# Altium footprint library SOT 343.PcbLib: 5 footprints
Each footprint in its own frame and in the unit in brackets; x right, y up, seen from the top. Pads: shape width x height; smd on the part's side, far side on the other; paste and mask are expansions set on the pad; w line width, h text height; cw(c..) or ccw(c..) is an arc to the next point about the centre after c.
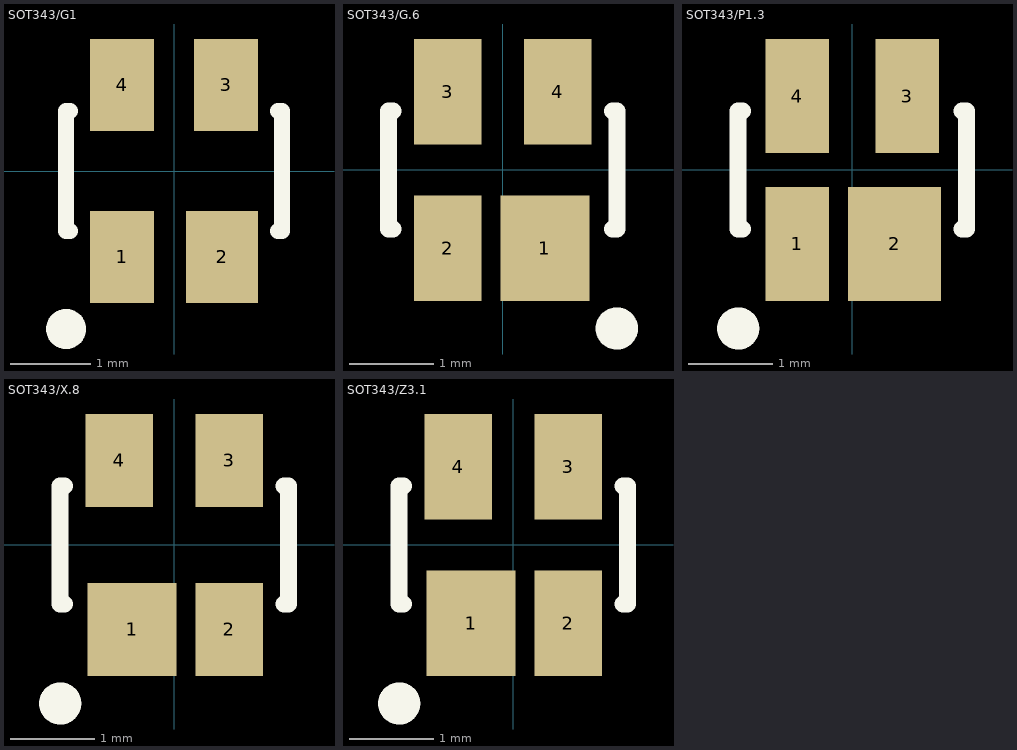
[diagram p0: the footprints below, top view; thin cyan lines are the x and y axes]

## SOT343/G1 [mm] "SOT-343; 4 Leads; Body 2.2 x 2.4 mm, inc. leads (LxW max)"
height 1.1
pads (4):
  rect 0.8x1.15 smd: 1(-0.65,-1.075) 3(0.65,1.075) 4(-0.65,1.075)
  rect 0.9x1.15 smd: 2(0.6,-1.075)
Top Overlay:
  circle w0.25: c-1.35,-1.975 r0.125
  lines w0.2: -1.3,-0.75 -1.35,-0.75 -1.35,0.75 -1.3,0.75 ; 1.3,-0.75 1.35,-0.75 1.35,0.75 1.3,0.75

## SOT343/G.6 [mm] "SOT-343; 4 Leads; Body 2.2 x 2.2 mm, inc. leads (LxW max); Reverse Pinning"
height 1.1
pads (4):
  rect 1.05x1.25 smd: 1(0.5,-0.925)
  rect 0.8x1.25 smd: 2(-0.65,-0.925) 3(-0.65,0.925) 4(0.65,0.925)
Top Overlay:
  circle w0.25: c1.35,-1.875 r0.125
  lines w0.2: -1.3,-0.7 -1.35,-0.7 -1.35,0.7 -1.3,0.7 ; 1.3,-0.7 1.35,-0.7 1.35,0.7 1.3,0.7

## SOT343/P1.3 [mm] "SOT-343; 4 Leads; Body 2.2 x 2.2 mm, inc. leads (LxW max)"
height 1
pads (4):
  rect 0.75x1.35 smd: 1(-0.65,-0.875) 3(0.65,0.875) 4(-0.65,0.875)
  rect 1.1x1.35 smd: 2(0.5,-0.875)
Top Overlay:
  circle w0.25: c-1.35,-1.875 r0.125
  lines w0.2: -1.3,-0.7 -1.35,-0.7 -1.35,0.7 -1.3,0.7 ; 1.3,-0.7 1.35,-0.7 1.35,0.7 1.3,0.7

## SOT343/X.8 [mm] "SOT-343; 4 Leads; Body 2.2 x 2.2 mm, inc. leads (LxW max)"
height 1
pads (4):
  rect 1.05x1.1 smd: 1(-0.5,-1)
  rect 0.8x1.1 smd: 2(0.65,-1) 3(0.65,1) 4(-0.65,1)
Top Overlay:
  circle w0.25: c-1.35,-1.875 r0.125
  lines w0.2: -1.3,-0.7 -1.35,-0.7 -1.35,0.7 -1.3,0.7 ; 1.3,-0.7 1.35,-0.7 1.35,0.7 1.3,0.7

## SOT343/Z3.1 [mm] "SOT-343; 4 Leads; Body 2.2 x 2.2 mm, inc. leads (LxW max)"
height 1.1
pads (4):
  rect 1.05x1.25 smd: 1(-0.5,-0.925)
  rect 0.8x1.25 smd: 2(0.65,-0.925) 3(0.65,0.925) 4(-0.65,0.925)
Top Overlay:
  circle w0.25: c-1.35,-1.875 r0.125
  lines w0.2: -1.3,-0.7 -1.35,-0.7 -1.35,0.7 -1.3,0.7 ; 1.3,-0.7 1.35,-0.7 1.35,0.7 1.3,0.7